# Altium footprint library PCB_soldeerstation.PcbLib: 39 footprints (part 2 of 3)
Each footprint in its own frame and in the unit in brackets; x right, y up, seen from the top. Pads: shape width x height; smd on the part's side, far side on the other; paste and mask are expansions set on the pad; w line width, h text height; cw(c..) or ccw(c..) is an arc to the next point about the centre after c.
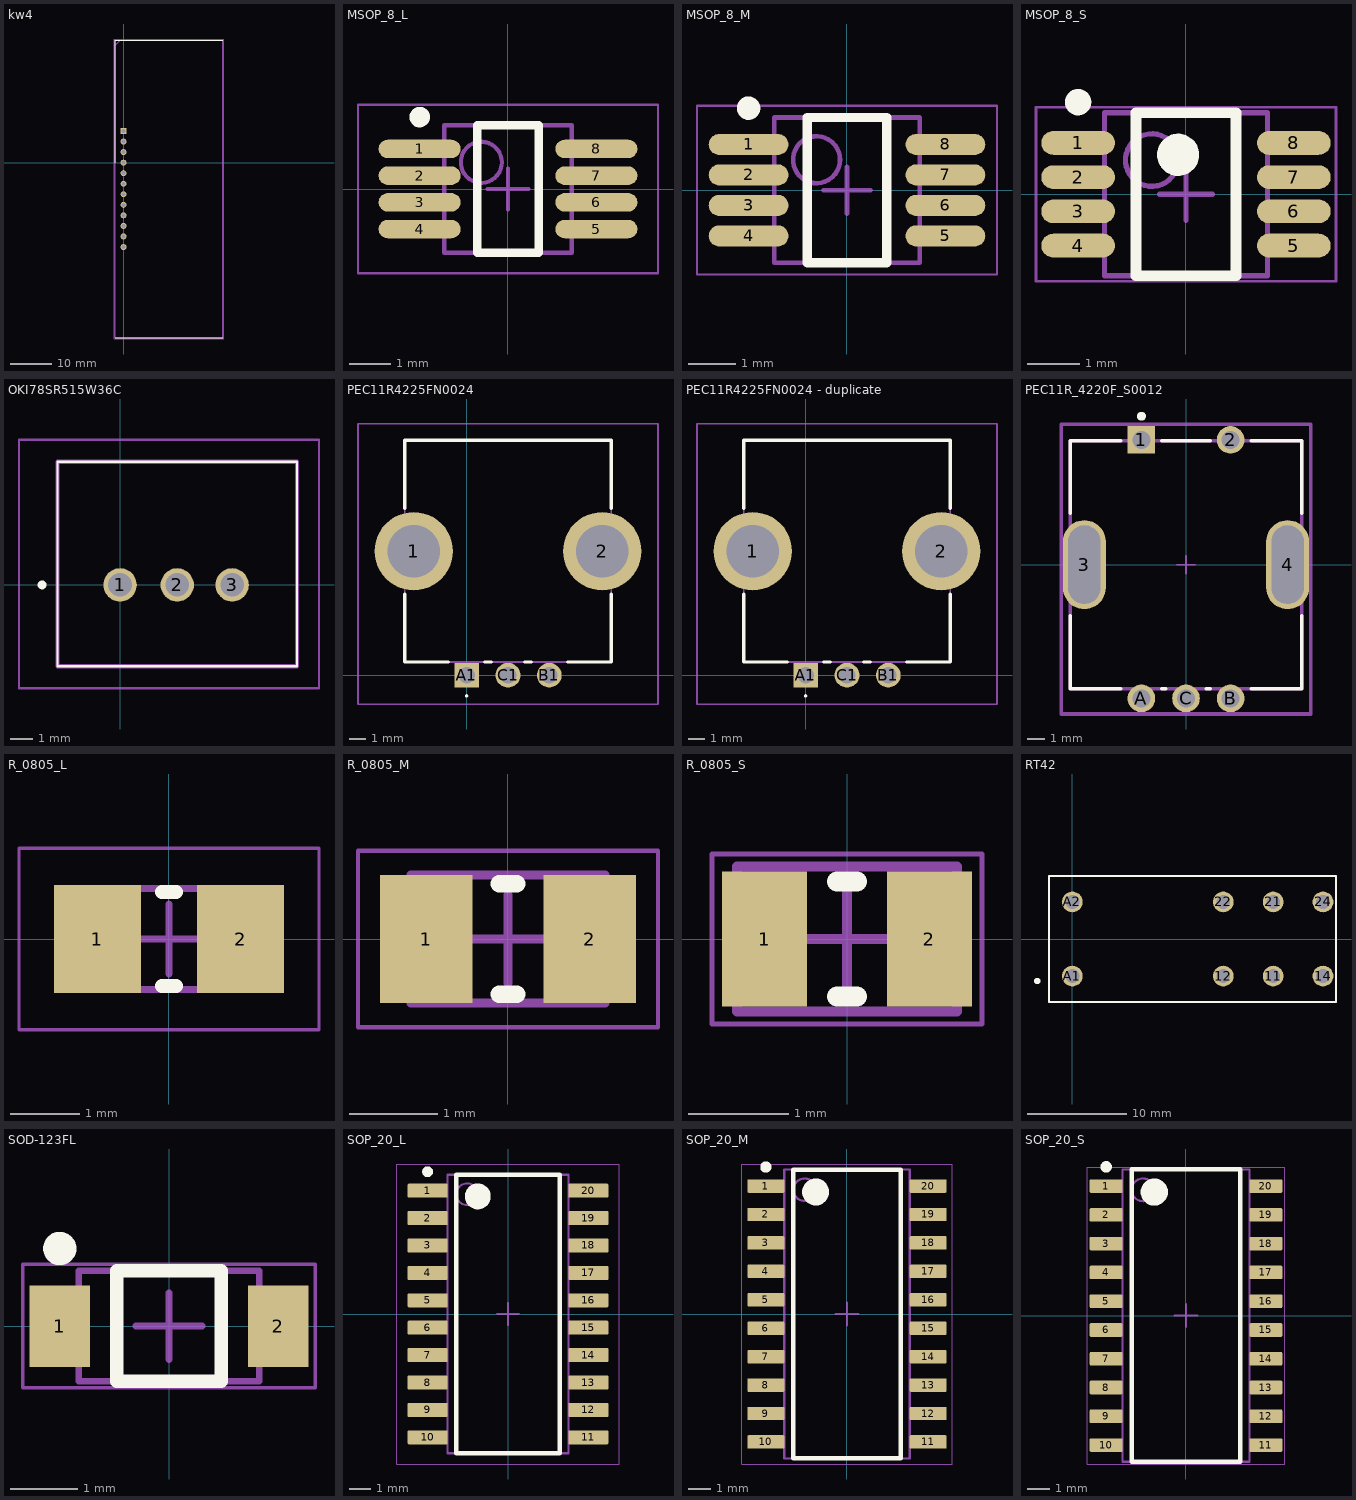
[diagram p1: the footprints below, top view; thin cyan lines are the x and y axes]

## kw4 [mm]
pads (12):
  rect 1.425x1.425 hole 0.95: 1(0,7.62)
  round 1.425 hole 0.95: 2(0,5.08) 3(0,2.54) 4(0,0) 5(0,-2.54) 6(0,-5.08) 7(0,-7.62) 8(0,-10.16) 9(0,-12.7) 10(0,-15.24) 11(0,-17.78) 12(0,-20.32)
Top Overlay:
  lines w0.2: -2.025,-42.225 23.925,-42.225 ; -2.025,0 -2.025,29.525 23.925,29.525
Mechanical 13:
  lines w0.1: -2.025,28.255 -0.755,29.525 ; -2.025,-42.225 -2.025,29.525 23.925,29.525 23.925,-42.225 -2.025,-42.225
Mechanical 15:
  lines w0.05: -2.275,-42.475 -2.275,29.775 24.175,29.775 24.175,-42.475 -2.275,-42.475

## MSOP_8_L [mm] "TSOP, 8-Leads, Body 3x3mm, Pitch 0.65mm, IPC Low Density"
height 1.1
pads (8):
  oval 2x0.45 smd: 1(-2.15,0.975) 2(-2.15,0.325) 3(-2.15,-0.325) 4(-2.15,-0.975) 5(2.15,-0.975) 6(2.15,-0.325) 7(2.15,0.325) 8(2.15,0.975)
Top Overlay:
  circle w0.25: c-2.15,1.75 r0.125
  lines w0.2: -0.75,-1.55 0.75,-1.55 0.75,1.55 -0.75,1.55 -0.75,-1.55
Mechanical 13:
  circle w0.1: c-0.65,0.65 r0.5
  lines w0.1: -1.55,-1.55 1.55,-1.55 1.55,1.55 -1.55,1.55 -1.55,-1.55
Mechanical 15:
  lines w0.05: -3.65,-2.05 3.65,-2.05 3.65,2.05 -3.65,2.05 -3.65,-2.05
  lines w0.1: -0.5,0 0.5,0 ; 0,-0.5 0,0.5
3D body: height 1.1, standoff 0, extent -1.55,-1.55 1.55,1.55

## MSOP_8_M [mm] "TSOP, 8-Leads, Body 3x3mm, Pitch 0.65mm, IPC Medium Density"
height 1.1
pads (8):
  oval 1.7x0.45 smd: 1(-2.1,0.975) 2(-2.1,0.325) 3(-2.1,-0.325) 4(-2.1,-0.975) 5(2.1,-0.975) 6(2.1,-0.325) 7(2.1,0.325) 8(2.1,0.975)
Top Overlay:
  circle w0.25: c-2.1,1.75 r0.125
  lines w0.2: -0.85,-1.55 -0.85,1.55 0.85,1.55 0.85,-1.55 -0.85,-1.55
Mechanical 13:
  circle w0.1: c-0.65,0.65 r0.5
  lines w0.1: -1.55,-1.55 -1.55,1.55 1.55,1.55 1.55,-1.55 -1.55,-1.55
Mechanical 15:
  lines w0.05: -3.2,-1.8 -3.2,1.8 3.2,1.8 3.2,-1.8 -3.2,-1.8
  lines w0.1: -0.5,0 0.5,0 ; 0,-0.5 0,0.5
3D body: height 1.1, standoff 0, extent -1.55,-1.55 1.55,1.55

## MSOP_8_S [mm] "TSOP, 8-Leads, Body 3x3mm, Pitch 0.65mm, IPC High Density"
height 1.1
pads (8):
  oval 1.4x0.45 smd: 1(-2.05,0.975) 2(-2.05,0.325) 3(-2.05,-0.325) 4(-2.05,-0.975) 5(2.05,-0.975) 6(2.05,-0.325) 7(2.05,0.325) 8(2.05,0.975)
Top Overlay:
  circle w0.4: c-0.15,0.75 r0.2
  circle w0.25: c-2.05,1.75 r0.125
  lines w0.2: -0.95,-1.55 0.95,-1.55 0.95,1.55 -0.95,1.55 -0.95,-1.55
Mechanical 13:
  circle w0.1: c-0.65,0.65 r0.5
  lines w0.1: -1.55,-1.55 1.55,-1.55 1.55,1.55 -1.55,1.55 -1.55,-1.55
Mechanical 15:
  lines w0.05: -2.85,-1.65 2.85,-1.65 2.85,1.65 -2.85,1.65 -2.85,-1.65
  lines w0.1: -0.5,0 0.5,0 ; 0,-0.5 0,0.5
3D body: height 1.1, standoff 0, extent -1.55,-1.55 1.55,1.55

## OKI78SR515W36C [mm]
pads (3):
  round 1.519 hole 1.08: 1(0,0) 2(2.6,0) 3(5.1,0)
Top Overlay:
  lines w0.1: -2.85,-3.7 -2.85,5.6 8.05,5.6 8.05,-3.7 -2.85,-3.7
  lines w0.3: -3.6,0 ccw(c-3.55,0) -3.5,0 ccw(c-3.55,0) -3.6,0
Mechanical 13:
  lines w0.2: -2.85,-3.7 -2.85,5.6 8.05,5.6 8.05,-3.7 -2.85,-3.7
Mechanical 15:
  lines w0.1: -4.6,-4.7 -4.6,6.6 9.05,6.6 9.05,-4.7 -4.6,-4.7
3D body "OKI-78SR-5_1.5-W36-C.stp": height 16.6, standoff -5, extent -2.85,-3.7 8.05,5.6

## PEC11R4225FN0024 [mm]
pads (5):
  round 4.74 hole 3.16: 1(-3.2,7.5) 2(8.2,7.5)
  rect 1.5x1.5 hole 1: A1(0,0)
  round 1.5 hole 1: B1(5,0) C1(2.5,0)
Top Overlay:
  lines w0.1: 0,-1.3 cw(c0,-1.25) 0,-1.2 cw(c0,-1.25) 0,-1.3
  lines w0.2: -3.75,4.9 -3.75,0.8 -1.1,0.8 ; -3.75,10.1 -3.75,14.2 8.75,14.2 8.75,10.1 ; 1.1,0.8 1.5,0.8 ; 3.5,0.8 3.9,0.8 ; 6.1,0.8 8.75,0.8 8.75,4.9
Mechanical 13:
  lines w0.1: -3.75,0.8 8.75,0.8 8.75,14.2 -3.75,14.2 -3.75,0.8
Mechanical 15:
  lines w0.1: -6.57,-1.75 11.57,-1.75 11.57,15.2 -6.57,15.2 -6.57,-1.75
3D body "PEC11R-4225F-N0024.stp": height 31.6, standoff -5, extent -4.668,-0.399 9.68,14.2

## PEC11R4225FN0024 - duplicate [mm]
pads (5):
  round 4.74 hole 3.16: 1(-3.2,7.5) 2(8.2,7.5)
  rect 1.5x1.5 hole 1: A1(0,0)
  round 1.5 hole 1: B1(5,0) C1(2.5,0)
Top Overlay:
  lines w0.1: 0,-1.3 ccw(c0,-1.25) 0,-1.2 ccw(c0,-1.25) 0,-1.3
  lines w0.2: -3.75,4.9 -3.75,0.8 -1.1,0.8 ; -3.75,10.1 -3.75,14.2 8.75,14.2 8.75,10.1 ; 1.1,0.8 1.5,0.8 ; 3.5,0.8 3.9,0.8 ; 6.1,0.8 8.75,0.8 8.75,4.9
Mechanical 13:
  lines w0.1: -3.75,0.8 -3.75,14.2 8.75,14.2 8.75,0.8 -3.75,0.8
Mechanical 15:
  lines w0.1: -6.57,-1.75 -6.57,15.2 11.57,15.2 11.57,-1.75 -6.57,-1.75
3D body "PEC11R-4225F-N0024.stp": height 31.6, standoff -5, extent -4.16,-0.272 10.188,14.327

## PEC11R_4220F_S0012 [mm]
pads (7):
  rect 1.55x1.55 hole 1 paste-1000 mask+0: 1(-2.5,7)
  round 1.55 hole 1 paste-1000 mask+0: 2(2.5,7) A(-2.5,-7.5) B(2.5,-7.5) C(0,-7.5)
  rrect100% 2.4x5 hole 4.4 slot 1.8 at 0 deg paste-1000 mask+0: 3(-5.7,0) 4(5.7,0)
Top Overlay:
  circle w0.25: c-2.5,8.325 r0.125
  lines w0.2: -6.5,-2.875 -6.5,-6.95 -3.65,-6.95 ; -6.5,2.875 -6.5,6.95 -3.65,6.95 ; -1.35,-6.95 -1.15,-6.95 ; -1.35,6.95 1.35,6.95 ; 1.15,-6.95 1.35,-6.95 ; 3.65,-6.95 6.5,-6.95 6.5,-2.875 ; 3.65,6.95 6.5,6.95 6.5,2.875
Top 3D Body:
  lines w0.2: -6.5,-6.95 -6.5,6.95 6.5,6.95 6.5,-6.95 -6.5,-6.95
Top Courtyard:
  lines w0.2: -7,-8.375 -7,7.875 7,7.875 7,-8.375 -7,-8.375
Top Assembly:
  lines w0.2: -7,-8.375 -7,7.875 7,7.875 7,-8.375 -7,-8.375
Top Component Center:
  lines w0.1: -0.5,0 0.5,0 ; 0,-0.5 0,0.5
3D body "Switch_Bourns_PEC11R-4220F-S0012_eec.STEP": height 0.25, standoff 0, extent -7,-8.375 7,7.875

## R_0805_L [mm] "Chip Resistor, 2-Leads, Body 2.00x1.25mm, IPC Low Density"
height 0.5
pads (2):
  rect 1.25x1.55 smd: 1(-1.025,0) 2(1.025,0)
Top Overlay:
  lines w0.2: -0.1,-0.675 0.1,-0.675 ; -0.1,0.675 0.1,0.675
Mechanical 13:
  lines w0.1: -1.1,-0.725 -1.1,0.725 1.1,0.725 1.1,-0.725 -1.1,-0.725
Mechanical 15:
  lines w0.05: -2.15,-1.3 -2.15,1.3 2.15,1.3 2.15,-1.3 -2.15,-1.3
  lines w0.1: -0.5,0 0.5,0 ; 0,-0.5 0,0.5
3D body: height 0.5, standoff 0, extent -0.8,-0.725 0.8,0.725
3D body: height 0.5, standoff 0, extent -1.1,-0.725 -0.8,0.725
3D body: height 0.5, standoff 0, extent 0.8,-0.725 1.1,0.725

## R_0805_M [mm] "Chip Resistor, 2-Leads, Body 2.00x1.25mm, IPC Medium Density"
height 0.5
pads (2):
  rect 1.05x1.45 smd: 1(-0.925,0) 2(0.925,0)
Top Overlay:
  lines w0.2: -0.1,-0.625 0.1,-0.625 ; -0.1,0.625 0.1,0.625
Mechanical 13:
  lines w0.1: -1.1,-0.725 1.1,-0.725 1.1,0.725 -1.1,0.725 -1.1,-0.725
Mechanical 15:
  lines w0.05: -1.7,-1 1.7,-1 1.7,1 -1.7,1 -1.7,-1
  lines w0.1: -0.5,0 0.5,0 ; 0,-0.5 0,0.5
3D body: height 0.5, standoff 0, extent 0.8,-0.725 1.1,0.725
3D body: height 0.5, standoff 0, extent -1.1,-0.725 -0.8,0.725
3D body: height 0.5, standoff 0, extent -0.8,-0.725 0.8,0.725

## R_0805_S [mm] "Chip Resistor, 2-Leads, Body 2.00x1.25mm, IPC High Density"
height 0.5
pads (2):
  rect 0.85x1.35 smd: 1(-0.825,0) 2(0.825,0)
Top Overlay:
  lines w0.2: -0.1,-0.575 0.1,-0.575 ; -0.1,0.575 0.1,0.575
Mechanical 13:
  lines w0.1: -1.1,-0.725 1.1,-0.725 1.1,0.725 -1.1,0.725 -1.1,-0.725
Mechanical 15:
  lines w0.05: -1.35,-0.85 1.35,-0.85 1.35,0.85 -1.35,0.85 -1.35,-0.85
  lines w0.1: -0.5,0 0.5,0 ; 0,-0.5 0,0.5
3D body: height 0.5, standoff 0, extent 0.8,-0.725 1.1,0.725
3D body: height 0.5, standoff 0, extent -1.1,-0.725 -0.8,0.725
3D body: height 0.5, standoff 0, extent -0.8,-0.725 0.8,0.725

## RT42 [mm]
pads (8):
  round 2.1 hole 1.4: 11(20.3,-3.75) 12(15.26,-3.75) 14(25.34,-3.75) 21(20.3,3.75) 22(15.26,3.75) 24(25.34,3.75) A1(0,-3.75) A2(0,3.75)
Top Overlay:
  circle w0.4: c-3.547,-4.246 r0.126
  lines w0.2: -2.35,-6.35 -2.35,6.35 26.65,6.35 26.65,-6.35 -2.35,-6.35
Mechanical 13:
  lines w0.2: -2.35,-6.35 -2.35,6.35 26.65,6.35 26.65,-6.35 -2.35,-6.35
3D body "RT424005.stp": height 15.86, standoff -2.94, extent -2.21,-6.35 26.79,6.35

## SOD-123FL [mm] "SOD, 2-Leads, Body 2.7x1.65mm"
height 1
pads (2):
  rect 0.91x1.22 smd: 1(-1.635,0) 2(1.635,0)
Top Overlay:
  circle w0.25: c-1.635,1.16 r0.125
  lines w0.2: -0.78,-0.825 0.78,-0.825 0.78,0.825 -0.78,0.825 -0.78,-0.825
Mechanical 13:
  lines w0.1: -1.35,-0.825 1.35,-0.825 1.35,0.825 -1.35,0.825 -1.35,-0.825
Mechanical 15:
  lines w0.05: -2.19,-0.925 2.19,-0.925 2.19,0.925 -2.19,0.925 -2.19,-0.925
  lines w0.1: -0.5,0 0.5,0 ; 0,-0.5 0,0.5
3D body: height 1, standoff 0, extent -1.35,-0.825 1.35,0.825

## SOP_20_L [mm] "SOIC,20-Leads,Body 12.9x5.6mm,Pitch 1.27mm,IPC Low Density"
height 2
pads (20):
  rrect15% 1.85x0.65 smd: 1(-3.725,5.715) 2(-3.725,4.445) 3(-3.725,3.175) 4(-3.725,1.905) 5(-3.725,0.635) 6(-3.725,-0.635) 7(-3.725,-1.905) 8(-3.725,-3.175) 9(-3.725,-4.445) 10(-3.725,-5.715) 11(3.725,-5.715) 12(3.725,-4.445) 13(3.725,-3.175) 14(3.725,-1.905) 15(3.725,-0.635) 16(3.725,0.635) 17(3.725,1.905) 18(3.725,3.175) 19(3.725,4.445) 20(3.725,5.715)
Top Overlay:
  circle w0.25: c-3.725,6.59 r0.125
  circle w0.6: c-1.4,5.45 r0.3
  lines w0.2: -2.4,-6.45 -2.4,6.45 2.4,6.45 2.4,-6.45 -2.4,-6.45
Mechanical 1:
  text ".Designator" at -1.524,-0.508 h1.02
Mechanical 13:
  circle w0.1: c-1.9,5.55 r0.5
  lines w0.1: -2.8,-6.45 -2.8,6.45 2.8,6.45 2.8,-6.45 -2.8,-6.45
Mechanical 15:
  lines w0.05: -5.15,-6.95 -5.15,6.95 5.15,6.95 5.15,-6.95 -5.15,-6.95
  lines w0.1: -0.5,0 0.5,0 ; 0,-0.5 0,0.5
3D body: height 2, standoff 0.05, extent -2.8,-6.45 2.8,6.45

## SOP_20_M [mm] "SOIC,20-Leads,Body 12.9x5.6mm,Pitch 1.27mm,IPC Medium Density"
height 2
pads (20):
  rrect17% 1.65x0.6 smd: 1(-3.625,5.715) 2(-3.625,4.445) 3(-3.625,3.175) 4(-3.625,1.905) 5(-3.625,0.635) 6(-3.625,-0.635) 7(-3.625,-1.905) 8(-3.625,-3.175) 9(-3.625,-4.445) 10(-3.625,-5.715) 11(3.625,-5.715) 12(3.625,-4.445) 13(3.625,-3.175) 14(3.625,-1.905) 15(3.625,-0.635) 16(3.625,0.635) 17(3.625,1.905) 18(3.625,3.175) 19(3.625,4.445) 20(3.625,5.715)
Top Overlay:
  circle w0.25: c-3.625,6.565 r0.125
  circle w0.6: c-1.4,5.45 r0.3
  lines w0.2: -2.4,-6.45 -2.4,6.45 2.4,6.45 2.4,-6.45 -2.4,-6.45
Mechanical 1:
  text ".Designator" at -1.524,-0.508 h1.02
Mechanical 13:
  circle w0.1: c-1.9,5.55 r0.5
  lines w0.1: -2.8,-6.45 -2.8,6.45 2.8,6.45 2.8,-6.45 -2.8,-6.45
Mechanical 15:
  lines w0.05: -4.7,-6.7 -4.7,6.7 4.7,6.7 4.7,-6.7 -4.7,-6.7
  lines w0.1: -0.5,0 0.5,0 ; 0,-0.5 0,0.5
3D body: height 2, standoff 0.05, extent -2.8,-6.45 2.8,6.45

## SOP_20_S [mm] "SOIC,20-Leads,Body 12.9x5.6mm,Pitch 1.27mm,IPC High Density"
height 2
pads (20):
  rrect17% 1.45x0.6 smd: 1(-3.525,5.715) 2(-3.525,4.445) 3(-3.525,3.175) 4(-3.525,1.905) 5(-3.525,0.635) 6(-3.525,-0.635) 7(-3.525,-1.905) 8(-3.525,-3.175) 9(-3.525,-4.445) 10(-3.525,-5.715) 11(3.525,-5.715) 12(3.525,-4.445) 13(3.525,-3.175) 14(3.525,-1.905) 15(3.525,-0.635) 16(3.525,0.635) 17(3.525,1.905) 18(3.525,3.175) 19(3.525,4.445) 20(3.525,5.715)
Top Overlay:
  circle w0.25: c-3.525,6.565 r0.125
  circle w0.6: c-1.4,5.45 r0.3
  lines w0.2: -2.4,-6.45 -2.4,6.45 2.4,6.45 2.4,-6.45 -2.4,-6.45
Mechanical 1:
  text ".Designator" at -1.524,-0.508 h1.02
Mechanical 13:
  circle w0.1: c-1.9,5.55 r0.5
  lines w0.1: -2.8,-6.45 -2.8,6.45 2.8,6.45 2.8,-6.45 -2.8,-6.45
Mechanical 15:
  lines w0.05: -4.35,-6.55 -4.35,6.55 4.35,6.55 4.35,-6.55 -4.35,-6.55
  lines w0.1: -0.5,0 0.5,0 ; 0,-0.5 0,0.5
3D body: height 2, standoff 0.05, extent -2.8,-6.45 2.8,6.45